# Altium footprint library POE_PcbLib.PcbLib: 20 footprints (part 1 of 2)
Each footprint in its own frame and in the unit in brackets; x right, y up, seen from the top. Pads: shape width x height; smd on the part's side, far side on the other; paste and mask are expansions set on the pad; w line width, h text height; cw(c..) or ccw(c..) is an arc to the next point about the centre after c.
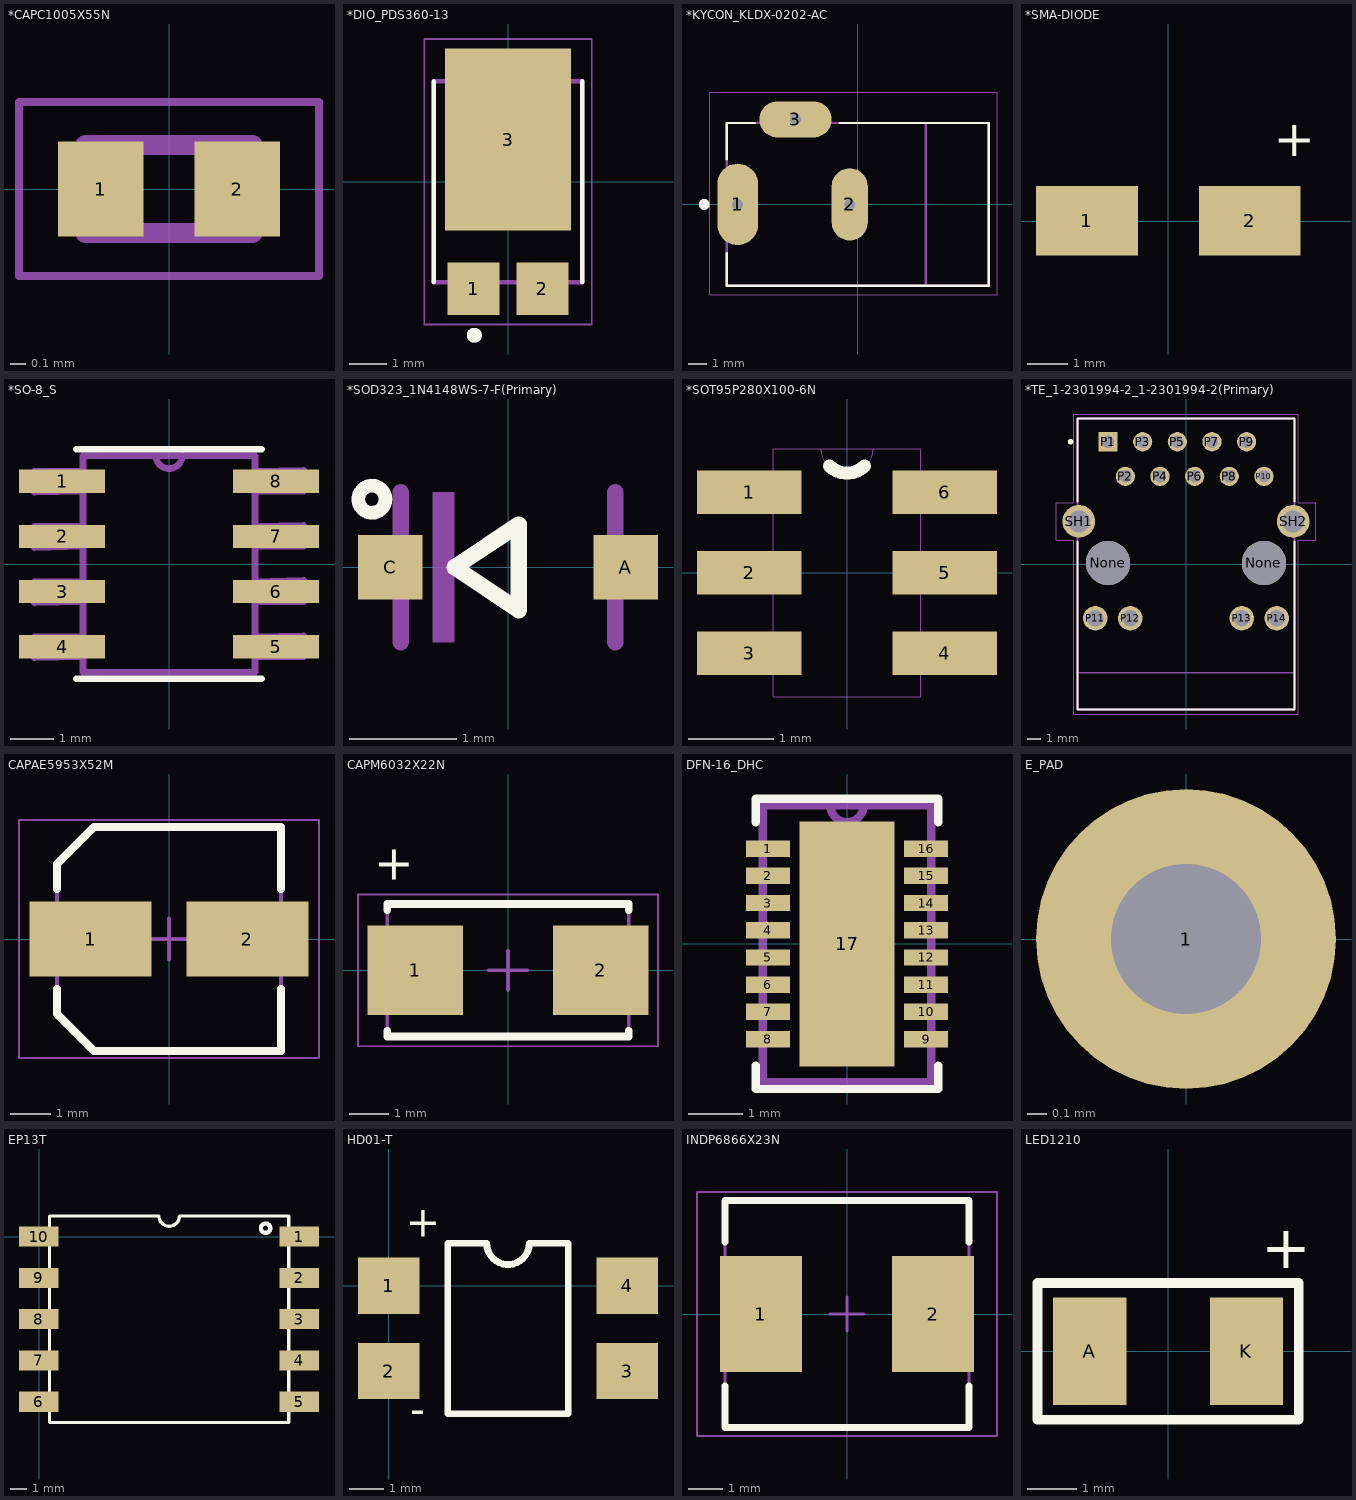
[diagram p0: the footprints below, top view; thin cyan lines are the x and y axes]

## *CAPC1005X55N [mm]
pads (2):
  rect 0.54x0.6 smd: 1(-0.432,0) 2(0.432,0)
Mechanical 4:
  lines w0.127: -0.53,-0.28 0.53,-0.28 ; -0.53,-0.28 -0.53,0.28 ; -0.53,-0.28 0.53,-0.28 ; -0.53,-0.28 -0.53,0.28 ; -0.53,0.28 0.53,0.28 ; -0.53,0.28 0.53,0.28 ; 0.53,-0.28 0.53,0.28 ; 0.53,-0.28 0.53,0.28
Mechanical 16:
  lines w0.05: -0.95,-0.55 0.95,-0.55 0.95,0.55 -0.95,0.55 -0.95,-0.55
3D body "EVK105RH010BW-F--3DModel-STEP-46669.STEP": height 0.48, standoff -0.02, extent -0.495,-0.27 0.505,0.28

## *DIO_PDS360-13 [mm]
pads (3):
  rect 1.39x1.4 smd: 1(-0.92,-2.856) 2(0.92,-2.856)
  rect 3.36x4.86 smd: 3(0,1.126)
Top Overlay:
  circle w0.2: c-0.9,-4.1 r0.1
  lines w0.127: -1.985,-2.685 -1.985,2.685 ; 1.985,-2.685 1.985,2.685
Top Paste:
  region: -1.06,2.666 1.06,2.666 1.06,-0.414 -1.06,-0.414
Mechanical 4:
  circle w0.2: c-0.9,-4.1 r0.1
  circle w0.2: c-0.9,-4.1 r0.1
  lines w0.127: -1.985,-2.685 1.985,-2.685 ; -1.985,-2.685 -1.985,2.685 ; -1.985,-2.685 1.985,-2.685 ; -1.985,-2.685 -1.985,2.685 ; -1.985,2.685 1.985,2.685 ; -1.985,2.685 1.985,2.685 ; 1.985,-2.685 1.985,2.685 ; 1.985,-2.685 1.985,2.685
Mechanical 16:
  lines w0.05: -2.235,-3.81 -2.235,3.81 2.235,3.81 2.235,-3.81 -2.235,-3.81
3D body "User Library-PowerDI-5.STEP": height 1.17, standoff 0.02, extent -2.018,-3.3 2.032,3.3

## *KYCON_KLDX-0202-AC [mm]
pads (3):
  oval 2.25x4.5 hole 0.6 square: 1(-6.65,0)
  oval 2x4 hole 0.6 square: 2(-0.45,0)
  oval 4x2 hole 0.6 square: 3(-3.45,4.7)
Top Overlay:
  circle w0.3: c-8.5,0 r0.15
  lines w0.127: -7.25,-2.7 -7.25,-4.5 7.25,-4.5 7.25,4.5 -1,4.5 ; -7.25,2.5 -7.25,4.5 -5.7,4.5
Mechanical 1:
  lines w0: 0.05,-1.5 0.05,1.5
  lines w0.01: 0.05,-1.5 -0.95,-1.5 -0.95,1.5 0.05,1.5 ; -7.15,-1.75 -6.15,-1.75 -6.15,1.75 -7.15,1.75 -7.15,-1.75 ; -4.95,4.2 -1.95,4.2 -1.95,5.2 -4.95,5.2 -4.95,4.2
Mechanical 4:
  lines w0.127: -7.25,-4.5 3.75,-4.5 ; -7.25,-4.5 -7.25,4.5 ; -7.25,-4.5 3.75,-4.5 ; -7.25,-4.5 -7.25,4.5 ; -7.25,4.5 3.75,4.5 ; -7.25,4.5 3.75,4.5 ; 3.75,-4.5 7.25,-4.5 ; 3.75,-4.5 3.75,4.5 ; 3.75,-4.5 7.25,-4.5 ; 3.75,-4.5 3.75,4.5 ; 3.75,4.5 7.25,4.5 ; 3.75,4.5 7.25,4.5 ; 7.25,-4.5 7.25,4.5 ; 7.25,-4.5 7.25,4.5
Mechanical 16:
  lines w0.05: -8.2,-5 -8.2,6.2 7.7,6.2 7.7,-5 -8.2,-5
3D body "User Library-kycon kld-0202-a.STEP": height 11.18, standoff -3.6, extent -7.4,-4.586 7.078,4.886

## *SMA-DIODE [mm]
pads (2):
  rect 2.5x1.7 smd: 1(-1.992,0.015) 2(2.008,0.015)
Top Overlay:
  text "+" at 2.6,1.3 h1.52
3D body "User Library-DO-214AC SMA.STEP": height 2.4, standoff 0, extent -2.6,-1.3 2.6,1.3

## *SO-8_S [mil]
pads (8):
  rect 78x21 smd: 1(-97,75) 2(-97,25) 3(-97,-25) 4(-97,-75) 5(97,-75) 6(97,-25) 7(97,25) 8(97,75)
Top Overlay:
  lines w6: -84,-104 84,-104 ; -84,104 84,104
Mechanical 4:
  lines w6: -122,-85 -78,-84 ; -122,-85 -122,-66 ; -122,-85 -78,-84 ; -122,-85 -122,-66 ; -122,-66 -78,-66 ; -122,-66 -78,-66 ; -122,-35 -78,-34 ; -122,-35 -122,-16 ; -122,-35 -78,-34 ; -122,-35 -122,-16 ; -122,-16 -78,-16 ; -122,-16 -78,-16 ; -122,15 -78,16 ; -122,15 -122,34 ; -122,15 -78,16 ; -122,15 -122,34 ; -122,34 -78,34 ; -122,34 -78,34 ; -122,65 -78,66 ; -122,65 -122,84 ; -122,65 -78,66 ; -122,65 -122,84 ; -122,84 -78,84 ; -122,84 -78,84 ; -78,-98 -78,98 ; -78,-98 78,-98 ; -78,-98 -78,98 ; -78,-98 78,-98 ; -78,-84 -78,-66 ; -78,-84 -78,-66 ; -78,-34 -78,-16 ; -78,-34 -78,-16 ; -78,16 -78,34 ; -78,16 -78,34 ; -78,66 -78,84 ; -78,66 -78,84 ; -78,98 -12,98 ; -78,98 -12,98 ; -12,98 78,98 ; -12,98 78,98 ; 78,-98 78,98 ; 78,-98 78,98 ; 78,-84 122,-84 ; 78,-84 78,-66 ; 78,-84 122,-84 ; 78,-84 78,-66 ; 78,-66 122,-65 ; 78,-66 122,-65 ; 78,-34 122,-34 ; 78,-34 78,-16 ; 78,-34 122,-34 ; 78,-34 78,-16 ; 78,-16 122,-15 ; 78,-16 122,-15 ; 78,16 122,16 ; 78,16 78,34 ; 78,16 122,16 ; 78,16 78,34 ; 78,34 122,35 ; 78,34 122,35 ; 78,66 122,66 ; 78,66 78,84 ; 78,66 122,66 ; 78,66 78,84 ; 78,84 122,85 ; 78,84 122,85 ; 122,-84 122,-65 ; 122,-84 122,-65 ; 122,-34 122,-15 ; 122,-34 122,-15 ; 122,16 122,35 ; 122,16 122,35 ; 122,66 122,85 ; 122,66 122,85 ; -12,98.08 ccw(c0,98.5) 12,98.92 cw(c0,98.5) -12,98.08
3D body "User Library-PowerPAK SO-8 (S).STEP": height 40.94, standoff 0, extent -121.06,-101.37 121.07,101.39

## *SOD323_1N4148WS-7-F(Primary) [mm]
pads (2):
  rect 0.6x0.6 smd: A(1.1,0) C(-1.1,0)
Top Overlay:
  circle w0.127: c-1.27,0.635 r0.127
  lines w0.152: -0.5,0 0.1,-0.4 0.1,0.4 -0.5,0
Mechanical 4:
  region: -0.701,0.7 -0.5,0.7 -0.5,-0.701 -0.701,-0.701
  region: -0.701,0.7 -0.5,0.7 -0.5,-0.701 -0.701,-0.701
  lines w0.152: -1,-0.7 -1,0.7 -1,-0.7 ; 1,-0.7 1,0.7 1,-0.7
3D body "User Library-SOD323-1.STEP": height 1.1, standoff 0, extent -1.3,-0.675 1.3,0.675

## *SOT95P280X100-6N [mil]
pads (6):
  rect 48x20 smd: 1(-45,37) 2(-45,0) 3(-45,-37) 4(45,-37) 5(45,0) 6(45,37)
Top Overlay:
  lines w6: -8,49 ccw(c0,57.28) 8,49
Mechanical 4:
  lines w0: -55,-46 -34,-46 ; -55,-46 -55,-29 ; -55,-46 -34,-46 ; -55,-46 -55,-29 ; -55,-29 -34,-29 ; -55,-29 -34,-29 ; -55,-9 -34,-9 ; -55,-9 -55,9 ; -55,-9 -34,-9 ; -55,-9 -55,9 ; -55,9 -34,9 ; -55,9 -34,9 ; -55,29 -34,29 ; -55,29 -55,46 ; -55,29 -34,29 ; -55,29 -55,46 ; -55,46 -34,46 ; -55,46 -34,46 ; -34,-57 -34,57 ; -34,-57 34,-57 ; -34,-57 -34,57 ; -34,-57 34,-57 ; -34,-46 -34,-29 ; -34,-46 -34,-29 ; -34,-9 -34,9 ; -34,-9 -34,9 ; -34,29 -34,46 ; -34,29 -34,46 ; -34,57 -12,57 ; -34,57 -12,57 ; -12,57 ccw(c0,57) 12,57 ; -12,57 ccw(c0,57) 12,57 ; -12,57 12,57 ; -12,57 12,57 ; 12,57 34,57 ; 12,57 34,57 ; 34,-57 34,57 ; 34,-57 34,57 ; 34,-46 55,-46 ; 34,-46 34,-29 ; 34,-46 55,-46 ; 34,-46 34,-29 ; 34,-29 55,-29 ; 34,-29 55,-29 ; 34,-9 55,-9 ; 34,-9 34,9 ; 34,-9 55,-9 ; 34,-9 34,9 ; 34,9 55,9 ; 34,9 55,9 ; 34,29 55,29 ; 34,29 34,46 ; 34,29 55,29 ; 34,29 34,46 ; 34,46 55,46 ; 34,46 55,46 ; 55,-46 55,-29 ; 55,-46 55,-29 ; 55,-9 55,9 ; 55,-9 55,9 ; 55,29 55,46 ; 55,29 55,46
3D body "User Library-TSOT-23-6(S6).STEP": height 39.37, standoff 0, extent -55.6,-57.09 55.6,57.09

## *TE_1-2301994-2_1-2301994-2(Primary) [mm]
pads (18):
  round 3.25 hole 3.25 unplated: None(-5.715,0.075) None(5.715,0.075)
  rect 1.408x1.408 hole 0.9: P1(-5.715,8.965)
  round 1.408 hole 0.9: P2(-4.445,6.425) P3(-3.175,8.965) P4(-1.905,6.425) P5(-0.635,8.965) P6(0.635,6.425) P7(1.905,8.965) P8(3.175,6.425) P9(4.445,8.965) P10(5.715,6.425)
  round 1.8 hole 1.2: P11(-6.645,-3.985) P12(-4.095,-3.985) P13(4.095,-3.985) P14(6.645,-3.985)
  round 2.4 hole 1.6: SH1(-7.855,3.125) SH2(7.855,3.125)
Top Overlay:
  circle w0.2: c-8.465,8.965 r0.1
  lines w0.127: -7.95,1.675 -7.95,-10.675 7.95,-10.675 7.95,1.675 ; -7.95,4.575 -7.95,10.675 7.95,10.675 7.95,4.575
Mechanical 4:
  circle w0.2: c-5.715,8.965 r0.1
  circle w0.2: c-5.715,8.965 r0.1
  lines w0.127: -7.95,-10.675 7.95,-10.675 ; -7.95,-10.675 -7.95,10.675 ; -7.95,-10.675 7.95,-10.675 ; -7.95,-10.675 -7.95,10.675 ; -7.95,10.675 7.95,10.675 ; -7.95,10.675 7.95,10.675 ; 7.95,-10.675 7.95,10.675 ; 7.95,-10.675 7.95,10.675 ; -7.95,-7.975 7.95,-7.975 -7.95,-7.975
Mechanical 16:
  lines w0.05: -9.5,1.75 -8.25,1.75 -8.25,-11 8.25,-11 8.25,1.75 9.5,1.75 9.5,4.5 8.25,4.5 8.25,11 -8.25,11 -8.25,4.5 -9.5,4.5 -9.5,1.75
3D body "c-1-2301994-2-b-3d.stp": height 15.79, standoff -3.51, extent -10.127,-10.682 9.873,10.668

## CAPAE5953X52M [mm] "Aluminum Electrolytic Capacitor, Body 5.30x5.30x5.20mm, IPC Low Density"
height 5.2
pads (2):
  rect 3x1.85 smd: 1(-1.925,0) 2(1.925,0)
Top Overlay:
  lines w0.2: -2.75,-1.225 -2.75,-1.837 -1.837,-2.75 2.75,-2.75 2.75,-1.225 ; -2.75,1.225 -2.75,1.837 -1.837,2.75 2.75,2.75 2.75,1.225
Top Assembly:
  lines w0.1: -2.75,-1.837 -1.837,-2.75 2.75,-2.75 2.75,2.75 -1.837,2.75 -2.75,1.837 -2.75,-1.837
Top Courtyard:
  lines w0.05: -3.683,-2.921 -3.683,2.921 3.683,2.921 3.683,-2.921 -3.683,-2.921
  lines w0.1: -0.5,0 0.5,0 ; 0,-0.5 0,0.5
3D body "CAPAE5953X52M.step": height 5.2, standoff 0, extent -2.95,-2.75 2.95,2.75

## CAPM6032X22N [mm] "Molded Capacitor, 2-Leads, Body 6.00x3.20mm, IPC Medium Density"
height 2.2
pads (2):
  rect 2.45x2.3 smd: 1(-2.375,0) 2(2.375,0)
Top Overlay:
  lines w0.2: -3.1,-1.55 -3.1,-1.7 3.1,-1.7 3.1,-1.55 ; -3.1,1.55 -3.1,1.7 3.1,1.7 3.1,1.55
  text "+" at -3.429,2.032 h1.52
Top Assembly:
  lines w0.1: -3.1,-1.7 3.1,-1.7 3.1,1.7 -3.1,1.7 -3.1,-1.7
Top Courtyard:
  lines w0.05: -3.85,-1.95 3.85,-1.95 3.85,1.95 -3.85,1.95 -3.85,-1.95
  lines w0.1: -0.5,0 0.5,0 ; 0,-0.5 0,0.5
3D body "CAPM6032X22N.step": height 2.2, standoff 0, extent -3.32,-1.7 3.32,1.7

## DFN-16_DHC [mm]
pads (17):
  rect 0.805x0.3 smd: 1(-1.452,1.75) 2(-1.452,1.25) 3(-1.452,0.75) 4(-1.452,0.25) 5(-1.452,-0.25) 6(-1.452,-0.75) 7(-1.452,-1.25) 8(-1.452,-1.75) 9(1.452,-1.75) 10(1.452,-1.25) 11(1.452,-0.75) 12(1.452,-0.25) 13(1.452,0.25) 14(1.452,0.75) 15(1.452,1.25) 16(1.452,1.75)
  rect 1.75x4.5 smd paste-3: 17(0,0)
Top Overlay:
  lines w0.152: -1.676,-2.235 -1.676,-2.667 1.676,-2.667 1.676,-2.235 ; -1.676,2.235 -1.676,2.667 1.676,2.667 1.676,2.235
Top Paste:
  region: 0.775,0.85 -0.775,0.85 -0.775,2.15 0.775,2.15
  region: 0.775,-0.65 -0.775,-0.65 -0.775,0.65 0.775,0.65
  region: 0.775,-2.15 -0.775,-2.15 -0.775,-0.85 0.775,-0.85
Mechanical 13:
  lines w0.152: -0.305,2.54 ccw(c0,2.54) 0.305,2.54 ; -0.305,2.54 0.305,2.54 ; -0.305,2.54 -1.549,2.54 -1.549,-2.54 1.549,-2.54 1.549,2.54 0.305,2.54
3D body "User Library-My-DFN-16-5x3-0_5.STEP": height 0.8, standoff 0, extent -1.56,-2.542 1.56,2.558

## E_PAD [mil]
height 39.37
pads (1):
  round 60 hole 30: 1(0,0)

## EP13T [mm]
pads (10):
  rect 2.4x1.22 smd: 1(15.748,0) 2(15.748,-2.5) 3(15.748,-5) 4(15.748,-7.5) 5(15.748,-10) 6(-0.012,-10) 7(-0.012,-7.5) 8(-0.012,-5) 9(-0.012,-2.5) 10(-0.012,0)
Top Overlay:
  circle w0.254: c13.716,0.508 r0.284
  lines w0.2: 0.635,-11.25 0.635,1.25 7.255,1.25 ccw(c7.88,1.25) 8.505,1.25 15.113,1.25 15.113,-11.25 0.635,-11.25
3D body "User Library-EP13T-5+5.STEP": height 11.51, standoff 0.43, extent -1.131,-11.557 16.879,1.445

## HD01-T [mm] "Bridge Rectifier Single Phase Standard 100V Surface Mount 4-MiniDIP"
height 3
pads (4):
  rect 1.8x1.65 smd: 1(0,0) 2(0,-2.5) 3(7,-2.5) 4(7,0)
Top Overlay:
  lines w0.2: 1.735,-3.75 5.265,-3.75 5.265,1.25 4.125,1.25 cw(c3.5,1.25) 2.875,1.25 1.735,1.25 1.735,-3.75
  text "+" at 0.508,1.143 h1.52
  text "-" at 0.635,-4.318 h1.52
3D body "User Library-SOP254P665X290.STEP": height 2.9, standoff 0, extent 0.172,-3.745 6.858,1.205

## INDP6866X23N [mil] "Precision Wire Wound Inductor, 2-Leads, Body 6.81x6.59mm, IPC Medium Density"
height 90.16
pads (2):
  rect 95.2x135 smd: 1(-100,0) 2(100,0)
Top Overlay:
  lines w7.87: -141.73,-83.25 -141.73,-131.89 141.73,-131.89 141.73,-83.25 ; -141.73,83.25 -141.73,131.89 141.73,131.89 141.73,83.25
Top Assembly:
  lines w3.94: -141.73,-131.89 141.73,-131.89 141.73,131.89 -141.73,131.89 -141.73,-131.89
Top Courtyard:
  lines w1.97: -174.21,-141.73 174.21,-141.73 174.21,141.73 -174.21,141.73 -174.21,-141.73
  lines w3.94: -19.69,0 19.68,0 ; 0,-19.68 0,19.68
3D body "INDP6866X23N.step": height 94.09, standoff 0, extent -137.99,-129.72 137.99,129.72

## LED1210 [mm]
pads (2):
  rect 1.5x2.2 smd: A(-1.6,0) K(1.6,0)
Top Overlay:
  lines w0.2: -2.667,-1.397 -2.667,1.397 2.667,1.397 2.667,-1.397 -2.667,-1.397
  text "+" at 1.905,1.397 h1.52
3D body "User Library-led_1210.STEP": height 1.1, standoff -0.05, extent -1.62,-1.35 1.62,1.35